# EAGLE library part MICRO-USB (library HenryFC)
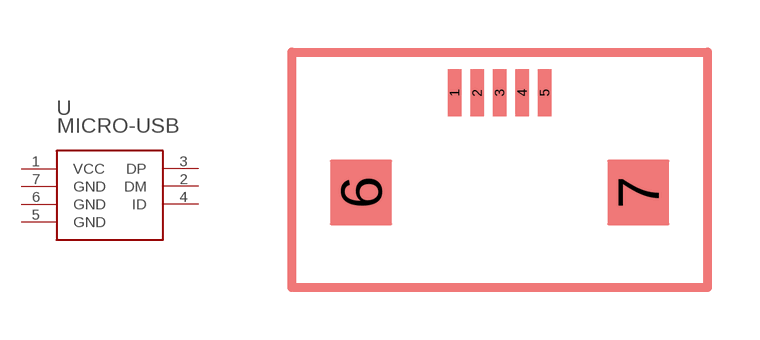
[diagram p3: symbol with the pads of MICRO-USB; footprint MICRO-USB]

Designator prefix -

## MICRO-USB  [MICRO-USB]
1  VCC
2  DM
3  DP
4  ID
5  GND
6  GND
7  GND

## Footprint MICRO-USB (pad centres in mm)
smd 0.4 x 1.35: 1 -1.3,4.325; 2 -0.65,4.325; 3 0,4.325; 4 0.65,4.325; 5 1.3,4.325
smd 1.8 x 1.9: 6 -4,1.45; 7 4,1.45